# EAGLE library part MAX17043 (library max17043)
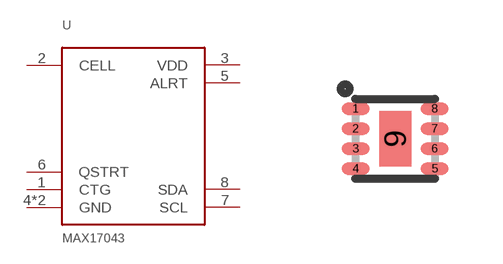
[diagram p0: symbol with the pads of 8-TDFN-EP; footprint 8-TDFN-EP]

Designator prefix -

## MAX17043  [8-TDFN-EP]
1  CTG
2  CELL
3  VDD
4  GND
5  ALRT
6  QSTRT
7  SCL
8  SDA
9  GND

## Footprint 8-TDFN-EP (pad centres in mm)
TDFN - 8pin, 2mmx3mm
smd 0.7 x 0.3: 1 -0.99,0.75; 2 -0.99,0.25; 3 -0.99,-0.25; 4 -0.99,-0.75; 5 0.99,-0.75; 6 0.99,-0.25; 7 0.99,0.25; 8 0.99,0.75
smd 0.8 x 1.38: 9 0,0